# Altium footprint library FuseHolder.PcbLib: 2 footprints
Each footprint in its own frame and in the unit in brackets; x right, y up, seen from the top. Pads: shape width x height; smd on the part's side, far side on the other; paste and mask are expansions set on the pad; w line width, h text height; cw(c..) or ccw(c..) is an arc to the next point about the centre after c.
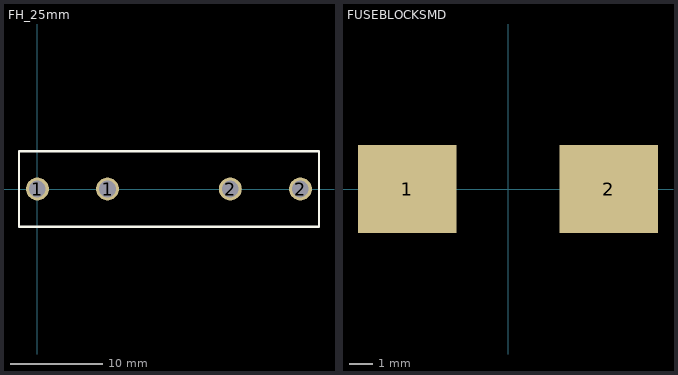
[diagram p0: the footprints below, top view; thin cyan lines are the x and y axes]

## FH_25mm [mm] "Para Fuse de 25mm y diam 6mm"
pads (4):
  round 2.5 hole 1.8: 1(0,0) 1(7.62,0) 2(20.96,0) 2(28.58,0)
Top Overlay:
  lines w0.254: -2,-4.1 30.6,-4.1 30.6,4.1 -2,4.1 -2,-4.1
3D body: height 9.55, standoff 4.45, extent 4.65,-2.539 24.35,2.539
3D body: height 10.89, standoff -3.6, extent 20.95,-3.95 29.05,3.95
3D body: height 10.89, standoff -3.6, extent -0.25,-3.95 7.85,3.95

## FUSEBLOCKSMD [mm] "Fuse Block Cartridge SMD"
pads (2):
  rect 4.24x3.81 smd: 1(-4.35,0) 2(4.35,0)
3D body: height 3.81, standoff 0, extent -4.915,-2.515 4.915,2.515